# EAGLE library part SIT65HVD08DGK (library serial_interfaces)
Transceiver RS422, RS485 1/1 10Mbps MSOP-8 RS-485/RS-422 ICs RoHS
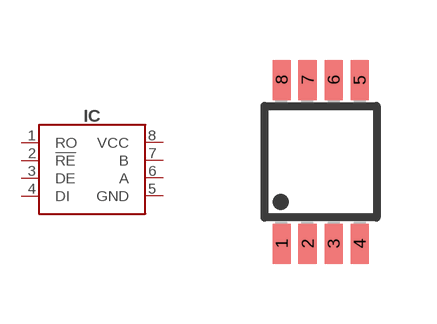
[diagram p3: symbol with the pads of VSSOP8; footprint VSSOP8]

Designator prefix IC

## SIT65HVD08DGK-MSOP8 (LCSC#: C427442; MANF: SIT; MANF#: SIT65HVD08DGK)  [VSSOP8]
1  RO  out
2  !RE  in
3  DE  in
4  DI  in
5  GND  sup
6  A
7  B
8  VCC  sup

## Footprint VSSOP8 (pad centres in mm)
Micro Small Outline Package Grid .65mm
smd 0.45 x 1: 1 -0.975,-2.05; 2 -0.325,-2.05; 3 0.325,-2.05; 4 0.975,-2.05; 5 0.975,2.05; 6 0.325,2.05; 7 -0.325,2.05; 8 -0.975,2.05